# Altium integrated library T491A106M004AT.IntLib: 1 symbol
Pins are listed as number, name and electrical type; pins without a type are passive.

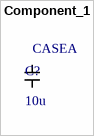
[diagram p0: symbol Component_1]

## Component_1
designator C?, comment 10u  CASE Type: CASEA
Buying URL:: https://uk.farnell.com/kemet/t491a106m004at/cap-tantalum-10uf-4v-case-a/dp/2676170?st=10uf%20CASE%20A
footprint CAPC3216X18N (Chip Capacitor, 2-Leads, Body 3.20x1.60mm, IPC Medium Density)
pins: 1, 2